# Altium footprint library CONMMCX013.PCBLIB: 1 footprints
Each footprint in its own frame and in the unit in brackets; x right, y up, seen from the top. Pads: shape width x height; smd on the part's side, far side on the other; paste and mask are expansions set on the pad; w line width, h text height; cw(c..) or ccw(c..) is an arc to the next point about the centre after c.
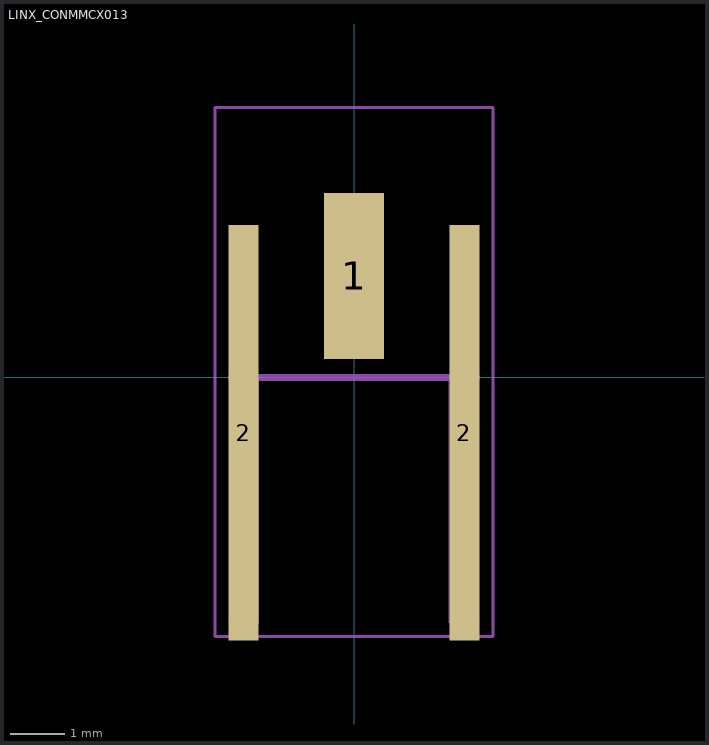
[diagram p0: the footprint, top view; thin cyan lines are the x and y axes]

## LINX_CONMMCX013 [mm]
pads (3):
  rect 1.1x3.048 smd: 1(0,1.861)
  rect 0.55x7.62 smd: 2(-2.025,-1.015) 2(2.025,-1.015)
Assembly Top:
  lines w0.127: -2.25,0 2.25,0
Mechanical 30:
  lines w0.05: -2.55,-4.75 -2.55,4.95 2.55,4.95 2.55,-4.75 -2.55,-4.75
Mechanical 33:
  lines w0: -2.3,-4.5 -1.75,-4.5 -1.75,0 1.75,0 1.75,-4.5 2.3,-4.5
3D body: height 2.1, standoff -1.41, extent -2.235,-4.881 2.235,2.619